# Altium footprint library Pcb_Conectores.PcbLib: 9 footprints
Each footprint in its own frame and in the unit in brackets; x right, y up, seen from the top. Pads: shape width x height; smd on the part's side, far side on the other; paste and mask are expansions set on the pad; w line width, h text height; cw(c..) or ccw(c..) is an arc to the next point about the centre after c.
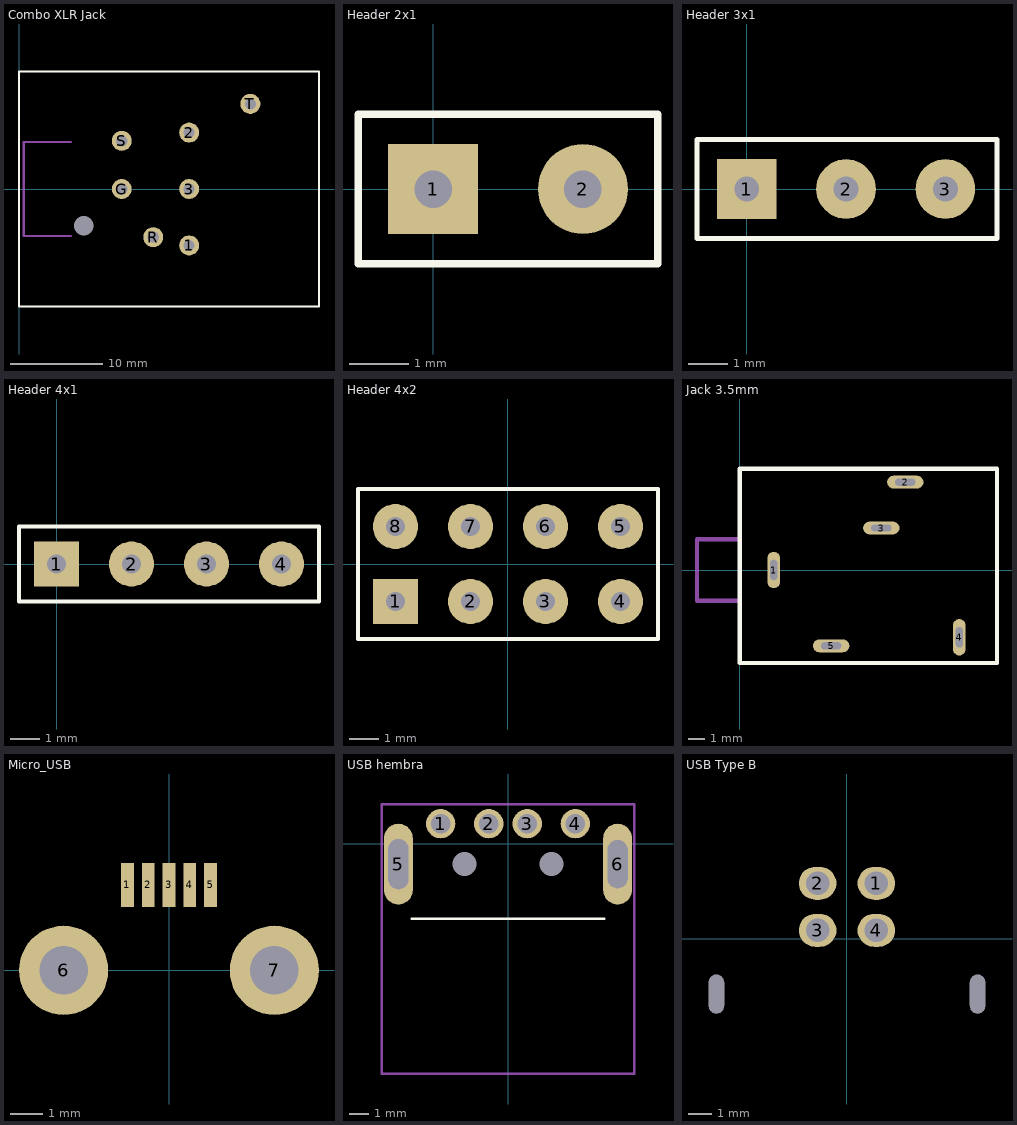
[diagram p0: the footprints below, top view; thin cyan lines are the x and y axes]

## Combo XLR Jack [mil]
pads (8):
  round 85 hole 47: 1(724,-240) 2(724,240) 3(724,0) G(437,0) R(571,-205) S(437,205) T(984,362)
  round 0 hole 83 unplated: Mount(276,-157)
Top Overlay:
  lines w10: 0,-500 0,0 0,500 1276,500 1276,-500 0,-500
Mechanical 16:
  lines w10: 219.69,-200 19.68,-200 19.68,200 219.69,200

## Header 2x1 [mil]
pads (2):
  rect 60x60 hole 25: 1(0,0)
  round 60 hole 25: 2(100,0)
Top Overlay:
  lines w5: -50,-50 -50,50 150,50 150,-50 -50,-50

## Header 3x1 [mil]
pads (3):
  rect 60x60 hole 25: 1(0,0)
  round 60 hole 25: 2(100,0) 3(200,0)
Top Overlay:
  lines w5: -50,-50 -50,50 251.97,50 251.97,-50 -50,-50

## Header 4x1 [mil]
pads (4):
  rect 60x60 hole 25: 1(0,0)
  round 60 hole 25: 2(100,0) 3(200,0) 4(300,0)
Top Overlay:
  lines w5: -50,-50 -50,50 350,50 350,-50 -50,-50

## Header 4x2 [mil]
pads (8):
  rect 60x60 hole 25: 1(-150,-50)
  round 60 hole 25: 2(-50,-50) 3(50,-50) 4(150,-50) 5(150,50) 6(50,50) 7(-50,50) 8(-150,50)
Top Overlay:
  lines w5: -200,-100 200,-100 200,100 -200,100 -200,-100

## Jack 3.5mm [mil]
pads (5):
  oval 30x85 hole 47 slot 16 at 0 deg: 1(79,0) 4(512,-157)
  oval 85x30 hole 16 slot 47 at 0 deg: 2(386,205) 3(330,98) 5(213,-177)
Top Overlay:
  lines w10: 0,-217 0,0 0,236 600,236 600,-217 0,-217
Mechanical 16:
  lines w10: 0,-72 -100,-72 -100,72 0,72

## Micro_USB [mil]
pads (7):
  rect 16x54 smd: 1(-51.18,105.31) 2(-25.59,105.31) 3(0,105.31) 4(25.59,105.31) 5(51.18,105.31)
  round 110 hole 60: 6(-129.92,0) 7(129.92,0)

## USB hembra [mm] "USB hembra"
pads (8):
  round 1.524 hole 1: 1(-3.5,1.05) 2(-1,1.05) 3(1,1.05) 4(3.5,1.05)
  oval 1.5x4.2 hole 1.05 slot 2.6 at 90 deg: 5(-5.7,-1.05)
  oval 1.5x4.2 hole 1.05 slot 2.5 at 90 deg: 6(5.7,-1.05)
  round 0 hole 1.25: 7(-2.25,-1.05) 8(2.25,-1.05)
Top Overlay:
  lines w0.127: -5,-3.9 5,-3.9
Mechanical 1:
  lines w0.127: 6.565,-11.945 -6.57,-11.945 -6.57,2.055 6.565,2.055 ; 6.57,-11.945 6.57,2.055

## USB Type B [mm] "Molex 67068-XX1X"
pads (6):
  oval 1.6x1.4 hole 1: 1(1.25,2.355) 2(-1.25,2.355) 3(-1.25,0.355) 4(1.25,0.355)
  round 0 hole 1.65 slot 0.65 at 0 deg unplated: 5(-5.55,-2.355) 6(5.55,-2.355)